# EAGLE library part FDC6305N (library FDC6305N)
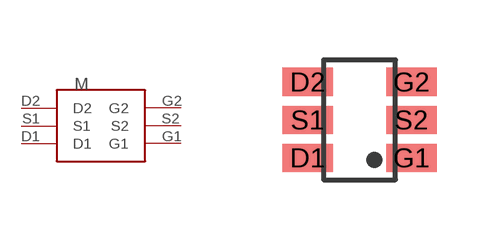
[diagram p0: symbol with the pads of FDC6305; footprint FDC6305]

Designator prefix M

## FDC6305N  [FDC6305]
D1  D1
D2  D2
G1  G1
G2  G2
S1  S1
S2  S2

## Footprint FDC6305 (pad centres in mm)
smd 1.27 x 0.7: D1 -0.4,0.55; D2 -0.4,2.45; G1 2.2,0.55; G2 2.2,2.45; S1 -0.4,1.5; S2 2.2,1.5